# Altium schematic symbol library LM1117.SchLib: 2 symbols
Pins are listed as number, name and electrical type; pins without a type are passive.

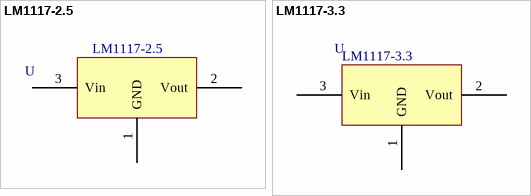
[diagram p0: symbols LM1117-2.5 to LM1117-3.3]

## LM1117-2.5
designator U  value LM1117-2.5  (hidden comment: *)
Manufacturer Code: LM1117MP-2.5; Manufacturer: Texas Instruments; Voltage: 2.5V; Current: 800mA; Unit Price: 1,30 €; Farnell Code: 9779205
footprint SOT223
pins: 1 GND, 2 Vout, 3 Vin

## LM1117-3.3
designator U  value LM1117-3.3  (hidden comment: *)
Manufacturer: Texas Instruments; Manufacturer Code: LM1117MP-3.3; Current: 800mA; Voltage: 3.3V; Unit Price: 1,14 €; Farnell Code: 9778195
footprint SOT223
pins: 1 GND, 2 Vout, 3 Vin, 4 GND hidden